# Altium footprint library PCB Components.PcbLib: 29 footprints (part 1 of 2)
Each footprint in its own frame and in the unit in brackets; x right, y up, seen from the top. Pads: shape width x height; smd on the part's side, far side on the other; paste and mask are expansions set on the pad; w line width, h text height; cw(c..) or ccw(c..) is an arc to the next point about the centre after c.
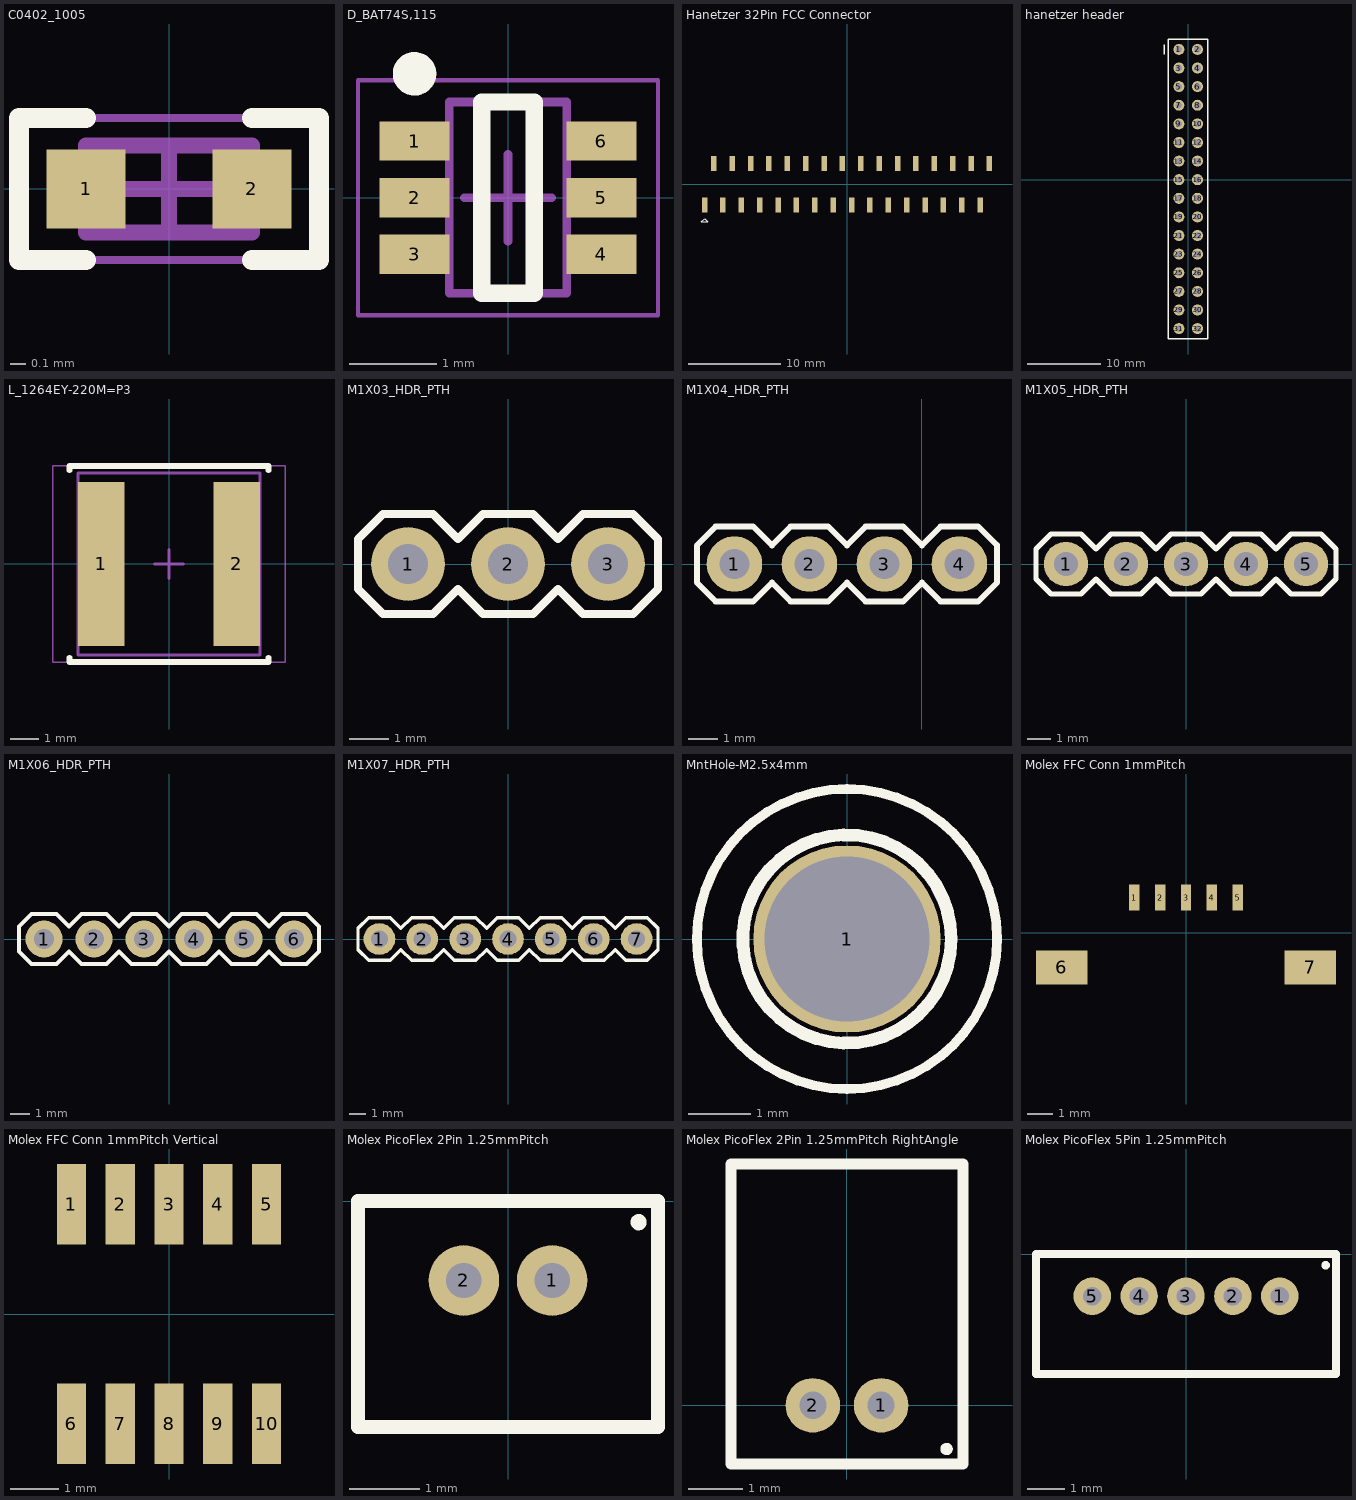
[diagram p0: the footprints below, top view; thin cyan lines are the x and y axes]

## C0402_1005 [mm] "Chip Capacitor, 2-Leads, Body 1.00x0.50mm, IPC Medium Density"
height 0.551
pads (2):
  rect 0.5x0.5 smd: 1(-0.525,0) 2(0.525,0)
Top Overlay:
  lines w0.127: -0.525,-0.45 -0.95,-0.45 -0.95,0.45 -0.525,0.45 ; 0.525,-0.45 0.95,-0.45 0.95,0.45 0.525,0.45
Top Component Body:
  lines w0.1: -0.525,-0.275 -0.525,0.275 0.525,0.275 0.525,-0.275 -0.525,-0.275
Top Assembly:
  lines w0.05: -0.95,-0.45 -0.95,0.45 0.95,0.45 0.95,-0.45 -0.95,-0.45
  lines w0.1: -0.275,0 0.275,0 ; 0,-0.275 0,0.275
3D body: height 0.4, standoff 0, extent -0.275,-0.275 0.275,0.275
3D body: height 0.4, standoff 0, extent -0.525,-0.275 -0.275,0.275
3D body: height 0.4, standoff 0, extent 0.275,-0.275 0.525,0.275

## D_BAT74S,115 [mm] "SOT23, 6-Leads, Body 2.00x2.10mm, Pitch 0.65mm, IPC Medium Density"
height 1.1
pads (6):
  rect 0.8x0.45 smd: 1(-1.075,0.65) 2(-1.075,0) 3(-1.075,-0.65) 4(1.075,-0.65) 5(1.075,0) 6(1.075,0.65)
Top Overlay:
  circle w0.25: c-1.075,1.425 r0.125
  lines w0.2: -0.3,-1.1 -0.3,1.1 0.3,1.1 0.3,-1.1 -0.3,-1.1
Top Component Body:
  lines w0.1: -0.675,-1.1 0.675,-1.1 0.675,1.1 -0.675,1.1 -0.675,-1.1
Top Assembly:
  lines w0.05: -1.725,-1.35 1.725,-1.35 1.725,1.35 -1.725,1.35 -1.725,-1.35
  lines w0.1: -0.5,0 0.5,0 ; 0,-0.5 0,0.5
3D body "BAT74S.step": height 1.1, standoff 0, extent -1.15,-1.1 1.15,1.1

## Hanetzer 32Pin FCC Connector [mm]
height 3.6
pads (32):
  rect 0.6x1.65 smd: 1(-15.5,-2.25) 2(-14.5,2.25) 3(-13.5,-2.25) 4(-12.5,2.25) 5(-11.5,-2.25) 6(-10.5,2.25) 7(-9.5,-2.25) 8(-8.5,2.25) 9(-7.5,-2.25) 10(-6.5,2.25) 11(-5.5,-2.25) 12(-4.5,2.25) 13(-3.5,-2.25) 14(-2.5,2.25) 15(-1.5,-2.25) 16(-0.5,2.25) 17(0.5,-2.25) 18(1.5,2.25) 19(2.5,-2.25) 20(3.5,2.25) 21(4.5,-2.25) 22(5.5,2.25) 23(6.5,-2.25) 24(7.5,2.25) 25(8.5,-2.25) 26(9.5,2.25) 27(10.5,-2.25) 28(11.5,2.25) 29(12.5,-2.25) 30(13.5,2.25) 31(14.5,-2.25) 32(15.5,2.25)
Top Overlay:
  lines w0.127: -15.854,-4.104 -15.5,-3.75 -15.146,-4.104 -15.854,-4.104
3D body "shfw32s-2ste1lf.stp": height 5.25, standoff -0.05, extent -17.5,-2.25 17.5,2.25

## hanetzer header [mm]
pads (32):
  round 1.5 hole 0.9: 1(-1.27,17.78) 2(1.27,17.78) 3(-1.27,15.24) 4(1.27,15.24) 5(-1.27,12.7) 6(1.27,12.7) 7(-1.27,10.16) 8(1.27,10.16) 9(-1.27,7.62) 10(1.27,7.62) 11(-1.27,5.08) 12(1.27,5.08) 13(-1.27,2.54) 14(1.27,2.54) 15(-1.27,0) 16(1.27,0) 17(-1.27,-2.54) 18(1.27,-2.54) 19(-1.27,-5.08) 20(1.27,-5.08) 21(-1.27,-7.62) 22(1.27,-7.62) 23(-1.27,-10.16) 24(1.27,-10.16) 25(-1.27,-12.7) 26(1.27,-12.7) 27(-1.27,-15.24) 28(1.27,-15.24) 29(-1.27,-17.78) 30(1.27,-17.78) 31(-1.27,-20.32) 32(1.27,-20.32)
Top Overlay:
  lines w0.203: -3.3,17.145 -3.3,18.415 ; -2.7,-21.74 2.7,-21.74 2.7,19.2 -2.7,19.2 -2.7,-21.74

## L_1264EY-220M=P3 [mm] "22uH Inductor, Precision Wire Wound Inductor, 2-Leads, Body 6.30x6.30mm, IPC Medium Density"
height 5
pads (2):
  rect 1.6x5.7 smd: 1(-2.35,0) 2(2.35,0)
Top Overlay:
  lines w0.2: -3.45,-3.25 -3.45,-3.4 3.45,-3.4 3.45,-3.25 ; -3.45,3.25 -3.45,3.4 3.45,3.4 3.45,3.25
Top Component Body:
  lines w0.1: -3.15,-3.15 -3.15,3.15 3.15,3.15 3.15,-3.15 -3.15,-3.15
Top Assembly:
  lines w0.05: -4.025,-3.4 -4.025,3.4 4.025,3.4 4.025,-3.4 -4.025,-3.4
  lines w0.1: -0.5,0 0.5,0 ; 0,-0.5 0,0.5
3D body "1255AY-220M=P3.step": height 4.6, standoff 0, extent -3.25,-3.15 3.25,3.15

## M1X03_HDR_PTH [mil] "1x03_HDR_PTH"
height 336.22
pads (3):
  round 74 hole 40: 1(-100,0) 2(0,0) 3(100,0)
Top Overlay:
  lines w8: -150,-25 -125,-50 -75,-50 -50,-25 -25,-50 25,-50 50,-25 75,-50 125,-50 150,-25 150,25 125,50 75,50 50,25 25,50 -25,50 -50,25 -75,50 -125,50 -150,25 -150,-25
Bottom Assembly:
  rectangle: -110,-10 -90,10
  rectangle: -10,-10 10,10
  rectangle: 90,-10 110,10
3D body "STEP-61300311121-rev1.stp": height 339.37, standoff -114.96, extent -149.99,-49.99 150.01,50.01

## M1X04_HDR_PTH [mil] "1x04_HDR_PTH"
height 336.22
pads (4):
  round 74 hole 40: 1(-250,0) 2(-150,0) 3(-50,0) 4(50,0)
Top Overlay:
  lines w8: -300,-25 -300,25 -275,50 -225,50 -200,25 -175,50 -125,50 -100,25 -75,50 -25,50 0,25 25,50 75,50 100,25 100.01,-24.99 75,-50 25,-50 0,-25 -25,-50 -75,-50 -100,-25 -125,-50 -175,-50 -200,-25 -225,-50 -275,-50 -300,-25
Bottom Assembly:
  rectangle: 40,-10 60,10
  rectangle: -60,-10 -40,10
  rectangle: -160,-10 -140,10
  rectangle: -260,-10 -240,10
3D body "STEP-61300411121-rev1.stp": height 339.37, standoff -114.96, extent -299.99,-49.99 100.01,50.01

## M1X05_HDR_PTH [mil] "1x05_HDR_PTH"
height 336.22
pads (5):
  round 74 hole 40: 1(-200,0) 2(-100,0) 3(0,0) 4(100,0) 5(200,0)
Top Overlay:
  lines w8: -250,-25 -225,-50 -175,-50 -150,-25 -125,-50 -75,-50 -50,-25 -25,-50 25,-50 50,-25 75,-50 125,-50 150,-25 175,-50 225,-50 250,-25 250,25 225,50 175,50 150,25 125,50 75,50 50,25 25,50 -25,50 -50,25 -75,50 -125,50 -150,25 -175,50 -225,50 -250,25 -250,-25
Bottom Assembly:
  rectangle: -210,-10 -190,10
  rectangle: -110,-10 -90,10
  rectangle: -10,-10 10,10
  rectangle: 90,-10 110,10
  rectangle: 190,-10 210,10
3D body "STEP-61300511121-rev1.stp": height 339.37, standoff -114.96, extent -249.99,-49.99 250.01,50.01

## M1X06_HDR_PTH [mil] "1x06_HDR_PTH"
height 336.22
pads (6):
  round 74 hole 40: 1(-250,0) 2(-150,0) 3(-50,0) 4(50,0) 5(150,0) 6(250,0)
Top Overlay:
  lines w8: -300,-25 -275,-50 -225,-50 -200,-25 -175,-50 -125,-50 -100,-25 -75,-50 -25,-50 0,-25 25,-50 75,-50 100,-25 125,-50 175,-50 200,-25 225,-50 275,-50 300,-25 300,25 275,50 225,50 200,25 175,50 125,50 100,25 75,50 25,50 0,25 -25,50 -75,50 -100,25 -125,50 -175,50 -200,25 -225,50 -275,50 -300,25 -300,-25
Bottom Assembly:
  rectangle: -260,-10 -240,10
  rectangle: -160,-10 -140,10
  rectangle: -60,-10 -40,10
  rectangle: 40,-10 60,10
  rectangle: 140,-10 160,10
  rectangle: 240,-10 260,10
3D body "STEP-61300611121-rev1.stp": height 339.37, standoff -114.96, extent -299.99,-49.99 300.01,50.01

## M1X07_HDR_PTH [mil] "1x07_HDR_PTH"
height 336.22
pads (7):
  round 74 hole 40: 1(-300,0) 2(-200,0) 3(-100,0) 4(0,0) 5(100,0) 6(200,0) 7(300,0)
Top Overlay:
  lines w8: -350,-25 -325,-50 -275,-50 -250,-25 -225,-50 -175,-50 -150,-25 -125,-50 -75,-50 -50,-25 -25,-50 25,-50 50,-25 75,-50 125,-50 150,-25 175,-50 225,-50 250,-25 275,-50 325,-50 350,-25 350,25 325,50 275,50 250,25 225,50 175,50 150,25 125,50 75,50 50,25 25,50 -25,50 -50,25 -75,50 -125,50 -150,25 -175,50 -225,50 -250,25 -275,50 -325,50 -350,25 -350,-25
Bottom Assembly:
  rectangle: -310,-10 -290,10
  rectangle: -210,-10 -190,10
  rectangle: -110,-10 -90,10
  rectangle: -10,-10 10,10
  rectangle: 90,-10 110,10
3D body "STEP-61300711121-rev1.stp": height 339.37, standoff -114.96, extent -350,-50 350,50

## MntHole-M2.5x4mm [mm] "Mounting Hole, 2.5X4mm Machine Screws"
pads (1):
  round 3 hole 2.65 paste+0 mask+0.1: 1(0,0)
Top Overlay:
  circle w0.203: c0,0 r1.668
  circle w0.152: c0,0 r2.402
Top Solder:
  circle w1: c0,0 r2
3D body "94017A150_METRIC CHEESE HEAD PHILLIPS MACHINE SCREW.STEP": height 2.24, standoff -3.5, extent -2.25,-2.25 2.25,2.25

## Molex FFC Conn 1mmPitch [mm]
height 1.9
pads (7):
  rect 0.4x1 smd: 1(-2,1.35) 2(-1,1.35) 3(0,1.35) 4(1,1.35) 5(2,1.35)
  rect 2x1.3 smd: 6(-4.8,-1.35) 7(4.8,-1.35)
3D body "2005280050.stp": height 1.88, standoff -0.08, extent -5.5,-3.75 5.5,1.55

## Molex FFC Conn 1mmPitch Vertical [mm]
height 5.75
pads (10):
  rect 0.6x1.65 smd: 1(-2,2.25) 2(-1,2.25) 3(0,2.25) 4(1,2.25) 5(2,2.25) 6(-2,-2.25) 7(-1,-2.25) 8(0,-2.25) 9(1,-2.25) 10(2,-2.25)
3D body "526100533.stp": height 5.7, standoff -0.05, extent -5.8,-2.25 5.8,2.25

## Molex PicoFlex 2Pin 1.25mmPitch [mm]
height 4.2
pads (2):
  round 1 hole 0.5 mask+0.05: 1(0.625,-1.125) 2(-0.625,-1.125)
Top Overlay:
  circle w0.127: c1.85,-0.3 r0.051
  lines w0.203: -2.125,-3.2 2.125,-3.2 2.125,0 -2.125,0 -2.125,-3.2
3D body "530470210.stp": height 4.28, standoff -2.22, extent -2.125,-3.2 2.125,0

## Molex PicoFlex 2Pin 1.25mmPitch RightAngle [mm]
height 3.5
pads (2):
  round 1 hole 0.5 mask+0.05: 1(0.625,0) 2(-0.625,0)
Top Overlay:
  circle w0.127: c1.825,-0.8 r0.051
  lines w0.203: -2.125,-1.075 2.125,-1.075 2.125,4.425 -2.125,4.425 -2.125,-1.075
3D body "530480210.stp": height 3.6, standoff -2.2, extent -2.125,-1.075 2.125,4.425

## Molex PicoFlex 5Pin 1.25mmPitch [mm]
height 4.2
pads (5):
  round 1 hole 0.5 mask+0.05: 1(2.5,-1.125) 2(1.25,-1.125) 3(0,-1.125) 4(-1.25,-1.125) 5(-2.5,-1.125)
Top Overlay:
  circle w0.127: c3.725,-0.3 r0.051
  lines w0.203: -4,-3.2 -4,0 4,0 4,-3.2 -4,-3.2
3D body "530470510.stp": height 4.28, standoff -2.22, extent -4,-3.2 4,0